# Altium schematic symbol library Misc.SchLib: 4 symbols
Pins are listed as number, name and electrical type; pins without a type are passive.

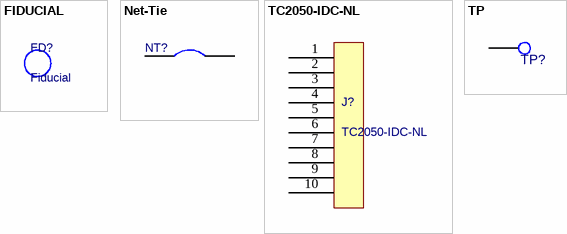
[diagram p0: symbols FIDUCIAL to TP]

## FIDUCIAL
designator FD?, comment Fiducial  (no BOM)
FIDUCIAL POINT
footprint FID_POINT (Fiducial point, 1.5 mm x 4.5 mm solder free area)

## Net-Tie
designator NT?  (net tie, no BOM)
Net-Tie
footprint Connection (No component PCB connection)
footprint Connection_2mm (No component PCB connection)
pins: 1, 2

## TC2050-IDC-NL
designator J?  (no BOM)
TagConnect TC2050-IDC-NL
footprint TC2050-IDC-NL
pins: 1, 2, 3, 4, 5, 6, 7, 8, 9, 10

## TP
designator TP?, comment TP_SMT  (value not drawn)  (no BOM)
TEST POINT
footprint TP_SMT (Test Point, Surface Mounting, Circular, Pad diameter 1mm)
pins: 1